# EAGLE library part LPC824M201JHI33 (library SquantorNxp)
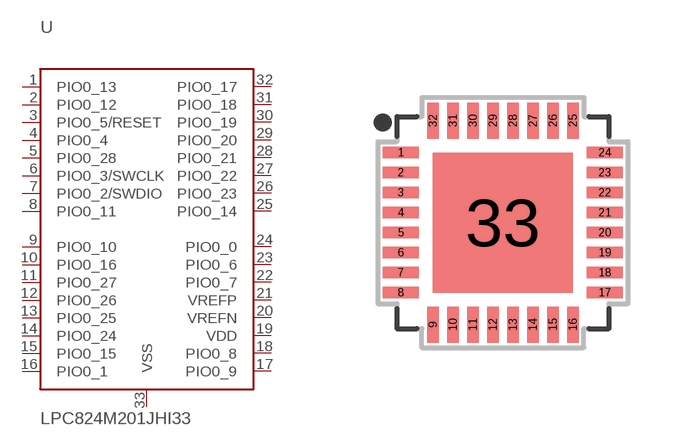
[diagram p12: symbol with the pads of SOT617-3; footprint SOT617-3]

Designator prefix -

## LPC824M201JHI33  [SOT617-3]
1  PIO0_13
2  PIO0_12
3  PIO0_5/RESET
4  PIO0_4
5  PIO0_28
6  PIO0_3/SWCLK
7  PIO0_2/SWDIO
8  PIO0_11
9  PIO0_10
10  PIO0_16
11  PIO0_27
12  PIO0_26
13  PIO0_25
14  PIO0_24
15  PIO0_15
16  PIO0_1
17  PIO0_9
18  PIO0_8
19  VDD
20  VREFN
21  VREFP
22  PIO0_7
23  PIO0_6
24  PIO0_0
25  PIO0_14
26  PIO0_23
27  PIO0_22
28  PIO0_21
29  PIO0_20
30  PIO0_19
31  PIO0_18
32  PIO0_17
33  VSS

## Footprint SOT617-3 (pad centres in mm)
SOT617-3 HVQFN32: plastic thermal enhanced very thin quad flat package; no leads; 32 terminals; body 5 x 5 x 0.85 mm JEDEC: MO-220 IEC: -- JEITA: --
smd 0.9 x 0.29: 1 -2.55,1.75; 2 -2.55,1.25; 3 -2.55,0.75; 4 -2.55,0.25; 5 -2.55,-0.25; 6 -2.55,-0.75; 7 -2.55,-1.25; 8 -2.55,-1.75; 17 2.55,-1.75; 18 2.55,-1.25; 19 2.55,-0.75; 20 2.55,-0.25; 21 2.55,0.25; 22 2.55,0.75; 23 2.55,1.25; 24 2.55,1.75
smd 0.29 x 0.9: 9 -1.75,-2.55; 10 -1.25,-2.55; 11 -0.75,-2.55; 12 -0.25,-2.55; 13 0.25,-2.55; 14 0.75,-2.55; 15 1.25,-2.55; 16 1.75,-2.55; 25 1.75,2.55; 26 1.25,2.55; 27 0.75,2.55; 28 0.25,2.55; 29 -0.25,2.55; 30 -0.75,2.55; 31 -1.25,2.55; 32 -1.75,2.55
smd 3.5 x 3.5: 33 0,0